# Altium schematic symbol library CAPACITOR_POL.SchLib: 1 symbol
Pins are listed as number, name and electrical type; pins without a type are passive.

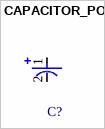
[diagram p0: symbol CAPACITOR_POL]

## CAPACITOR_POL
designator C?
pins: 1, 2